# EAGLE library part MAX-M10S-00B (library MAX-M10S-00B)
GPS Modules u-blox M10 GNSS LCC module, firmware in ROM, SAW filter, LNA Source: Datasheet <https://content.u-blox.com/sites/default/files/MAX-M10S_IntegrationManual_UBX-20053088.pdf>
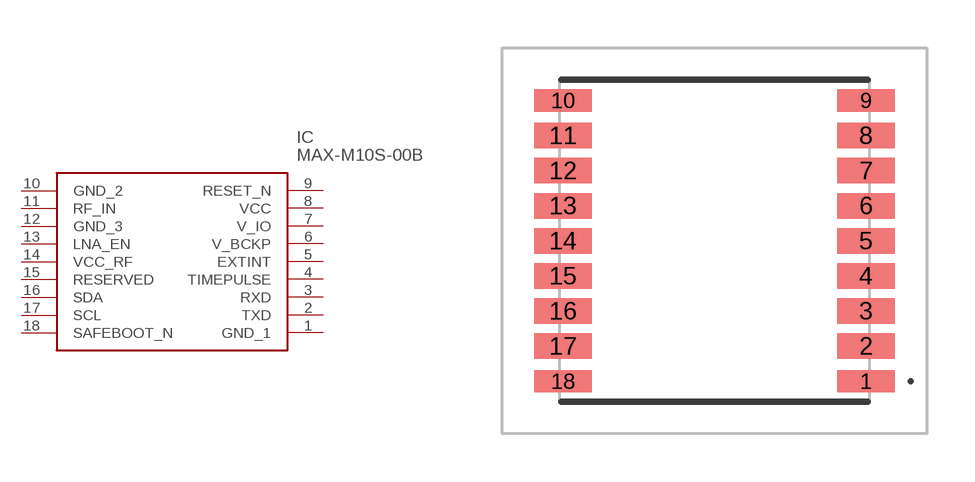
[diagram p0: symbol with the pads of MAXM10S00B; footprint MAXM10S00B]

Designator prefix IC

## MAX-M10S-00B (Description: GPS Modules u-blox M10 GNSS LCC module, firmware in ROM, SAW filter, LNA; Height: 2.7mm; Manufacturer_Name: U-Blox; Manufacturer_Part_Number: MAX-M10S-00B; Mouser_Part_Number: 377-MAX-M10S-00B; Mouser_Price-Stock: https://www.mouser.co.uk/ProductDetail/u-blox/MAX-M10S-00B?qs=A6eO%252BMLsxmT0PfQYPb7LLQ%3D%3D)  [MAXM10S00B]
1  GND_1
2  TXD
3  RXD
4  TIMEPULSE
5  EXTINT
6  V_BCKP
7  V_IO
8  VCC
9  RESET_N
10  GND_2
11  RF_IN
12  GND_3
13  LNA_EN
14  VCC_RF
15  RESERVED
16  SDA
17  SCL
18  SAFEBOOT_N

## Footprint MAXM10S00B (pad centres in mm)
MAX-M10S-00B-2
smd 1.8 x 0.7: 1 4.75,-4.4; 9 4.75,4.4; 10 -4.75,4.4; 18 -4.75,-4.4
smd 1.8 x 0.8: 2 4.75,-3.3; 3 4.75,-2.2; 4 4.75,-1.1; 5 4.75,0; 6 4.75,1.1; 7 4.75,2.2; 8 4.75,3.3; 11 -4.75,3.3; 12 -4.75,2.2; 13 -4.75,1.1; 14 -4.75,0; 15 -4.75,-1.1; 16 -4.75,-2.2; 17 -4.75,-3.3